# Altium schematic symbol library LOOM - LV BOX.SchLib: 10 symbols
Pins are listed as number, name and electrical type; pins without a type are passive.

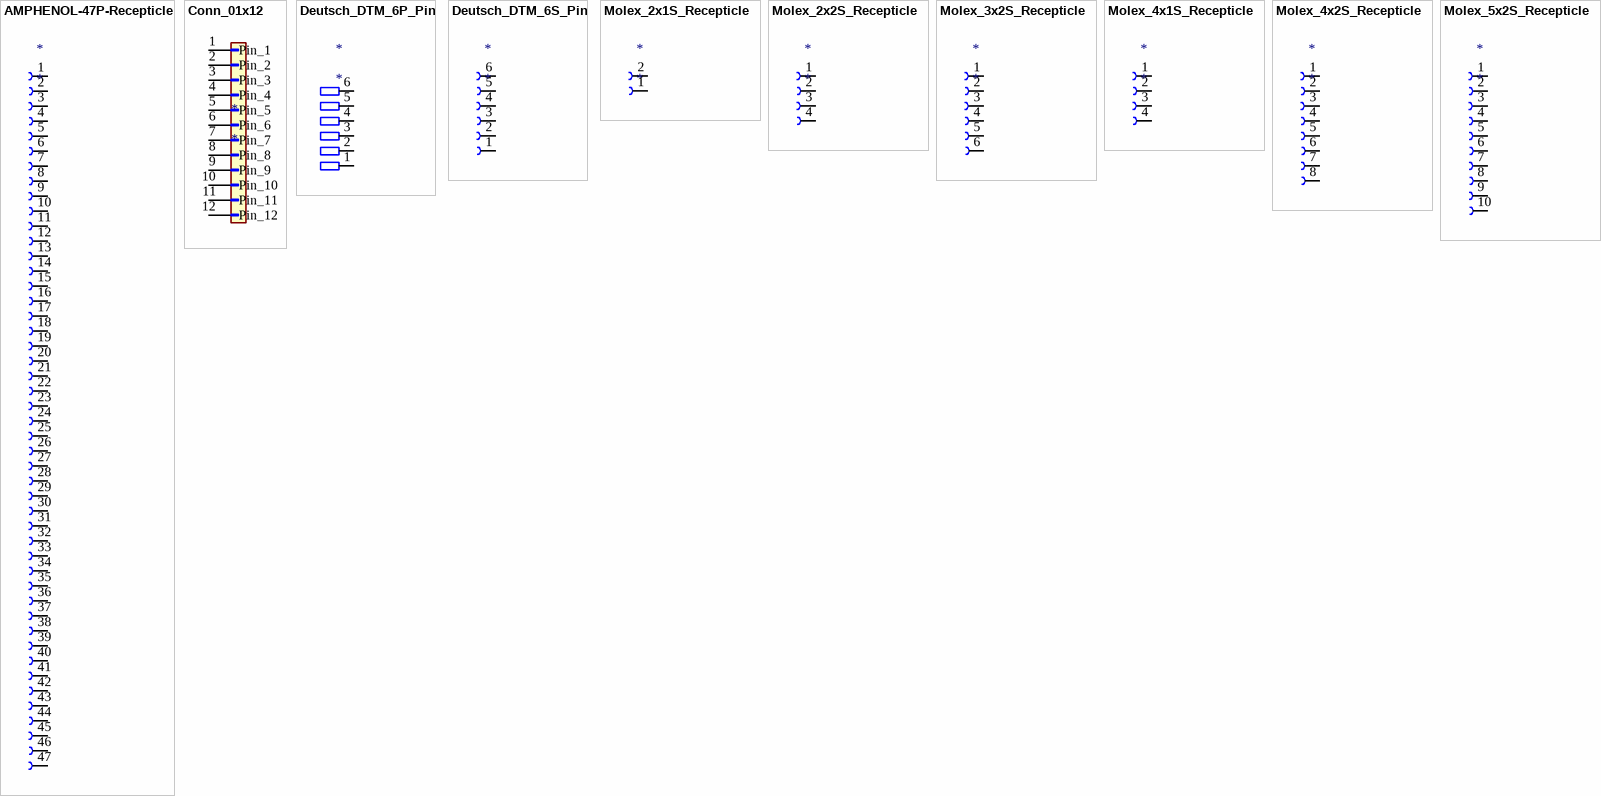
[diagram p0: symbols AMPHENOL-47P-Recepticle to Molex_5x2S_Recepticle]

## AMPHENOL-47P-Recepticle
designator *
pins: 1, 2, 3, 4, 5, 6, 7, 8, 9, 10, 11, 12, 13, 14, 15, 16, 17, 18, 19, 20, 21, 22, 23, 24, 25, 26, 27, 28, 29, 30, 31, 32, 33, 34, 35, 36, 37, 38, 39, 40, 41, 42, 43, 44, 45, 46, 47

## Conn_01x12
designator *
pins: 1 Pin_1, 2 Pin_2, 3 Pin_3, 4 Pin_4, 5 Pin_5, 6 Pin_6, 7 Pin_7, 8 Pin_8, 9 Pin_9, 10 Pin_10, 11 Pin_11, 12 Pin_12

## Deutsch_DTM_6P_Pin
designator *
pins: 1, 2, 3, 4, 5, 6

## Deutsch_DTM_6S_Pin
designator *
pins: 1, 2, 3, 4, 5, 6

## Molex_2x1S_Recepticle
designator *
pins: 1, 2

## Molex_2x2S_Recepticle
designator *
pins: 1, 2, 3, 4

## Molex_3x2S_Recepticle
designator *
pins: 1, 2, 3, 4, 5, 6

## Molex_4x1S_Recepticle
designator *
pins: 1, 2, 3, 4

## Molex_4x2S_Recepticle
designator *
pins: 1, 2, 3, 4, 5, 6, 7, 8

## Molex_5x2S_Recepticle
designator *
pins: 1, 2, 3, 4, 5, 6, 7, 8, 9, 10